# EAGLE library part ADUM7510 (library noah)
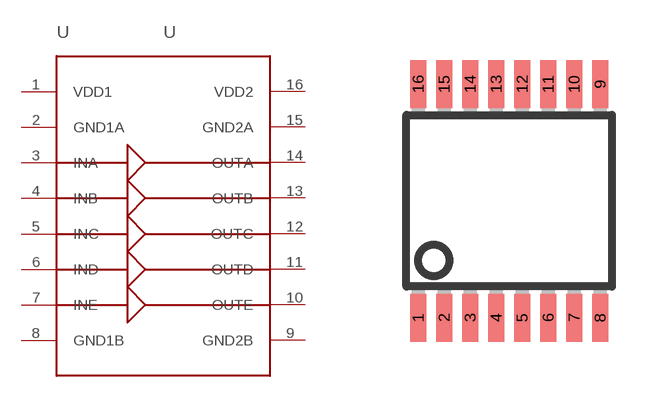
[diagram p1: symbol with the pads of SSOP16; footprint SSOP16]

Designator prefix -

## ADUM7510  [SSOP16]
1  VDD1
2  GND1A
3  INA
4  INB
5  INC
6  IND
7  INE
8  GND1B
9  GND2B
10  OUTE
11  OUTD
12  OUTC
13  OUTB
14  OUTA
15  GND2A
16  VDD2

## Footprint SSOP16 (pad centres in mm)
Small Shrink Outline Package
smd 0.4 x 1.2: 1 -2.275,-2.925; 2 -1.625,-2.925; 3 -0.975,-2.925; 4 -0.325,-2.925; 5 0.325,-2.925; 6 0.975,-2.925; 7 1.625,-2.925; 8 2.275,-2.925; 9 2.275,2.925; 10 1.625,2.925; 11 0.975,2.925; 12 0.325,2.925; 13 -0.325,2.925; 14 -0.975,2.925; 15 -1.625,2.925; 16 -2.275,2.925